# Altium footprint library INF-MG-WDSON-2-8_V.PcbLib: 1 footprints
Each footprint in its own frame and in the unit in brackets; x right, y up, seen from the top. Pads: shape width x height; smd on the part's side, far side on the other; paste and mask are expansions set on the pad; w line width, h text height; cw(c..) or ccw(c..) is an arc to the next point about the centre after c.
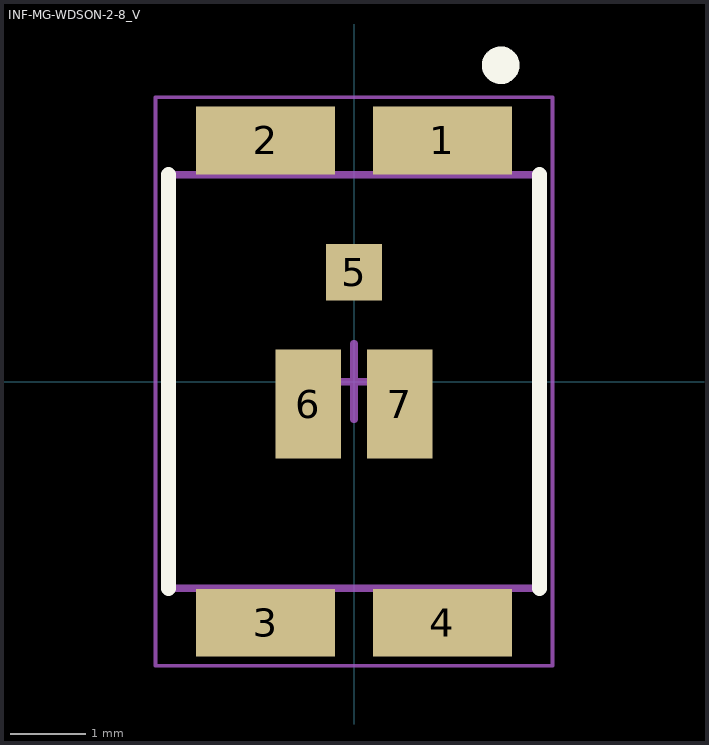
[diagram p0: the footprint, top view; thin cyan lines are the x and y axes]

## INF-MG-WDSON-2-8_V [mm] "WDSON, 7-Leads, Body 5.5x4.93mm"
height 0.68
pads (7):
  rect 1.85x0.9 smd: 1(1.175,3.205) 2(-1.175,3.205) 3(-1.175,-3.205) 4(1.175,-3.205)
  rect 0.75x0.75 smd: 5(0,1.45)
  rect 0.87x1.45 smd: 6(-0.61,-0.3) 7(0.61,-0.3)
Top Overlay:
  circle w0.25: c1.95,4.205 r0.125
  lines w0.2: -2.465,-2.75 -2.465,2.75 ; 2.465,-2.75 2.465,2.75
Mechanical 13:
  lines w0.1: -2.465,-2.75 -2.465,2.75 2.465,2.75 2.465,-2.75 -2.465,-2.75
Mechanical 15:
  lines w0.05: -2.64,-3.78 -2.64,3.78 2.64,3.78 2.64,-3.78 -2.64,-3.78
  lines w0.1: -0.5,0 0.5,0 ; 0,-0.5 0,0.5
3D body: height 0.68, standoff 0.02, extent -2.465,-2.75 2.465,2.75